# Altium schematic symbol library CP2103.SchLib: 1 symbol
Pins are listed as number, name and electrical type; pins without a type are passive.

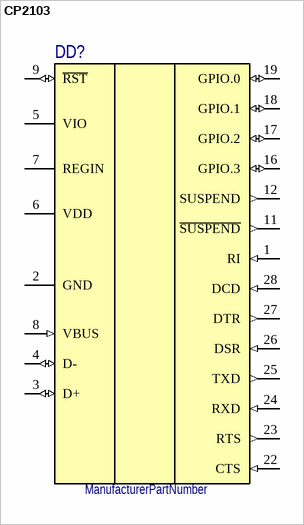
[diagram p0: symbol CP2103]

## CP2103
designator DD?
ManufacturerPartNumber: ManufacturerPartNumber
pins: 1 RI (in), 2 GND (power), 3 D+ (io), 4 D- (io), 5 VIO (power), 6 VDD (power), 7 REGIN (power), 8 VBUS (in), 9 ~{RST} (io), 11 ~{SUSPEND} (out), 12 SUSPEND (out), 16 GPIO.3 (io), 17 GPIO.2 (io), 18 GPIO.1 (io), 19 GPIO.0 (io), 22 CTS (in), 23 RTS (out), 24 RXD (in), 25 TXD (out), 26 DSR (in), 27 DTR (out), 28 DCD (in), 29 hidden to GND